# Altium integrated library quantum-research-group.IntLib: 5 symbols
Pins are listed as number, name and electrical type; pins without a type are passive.

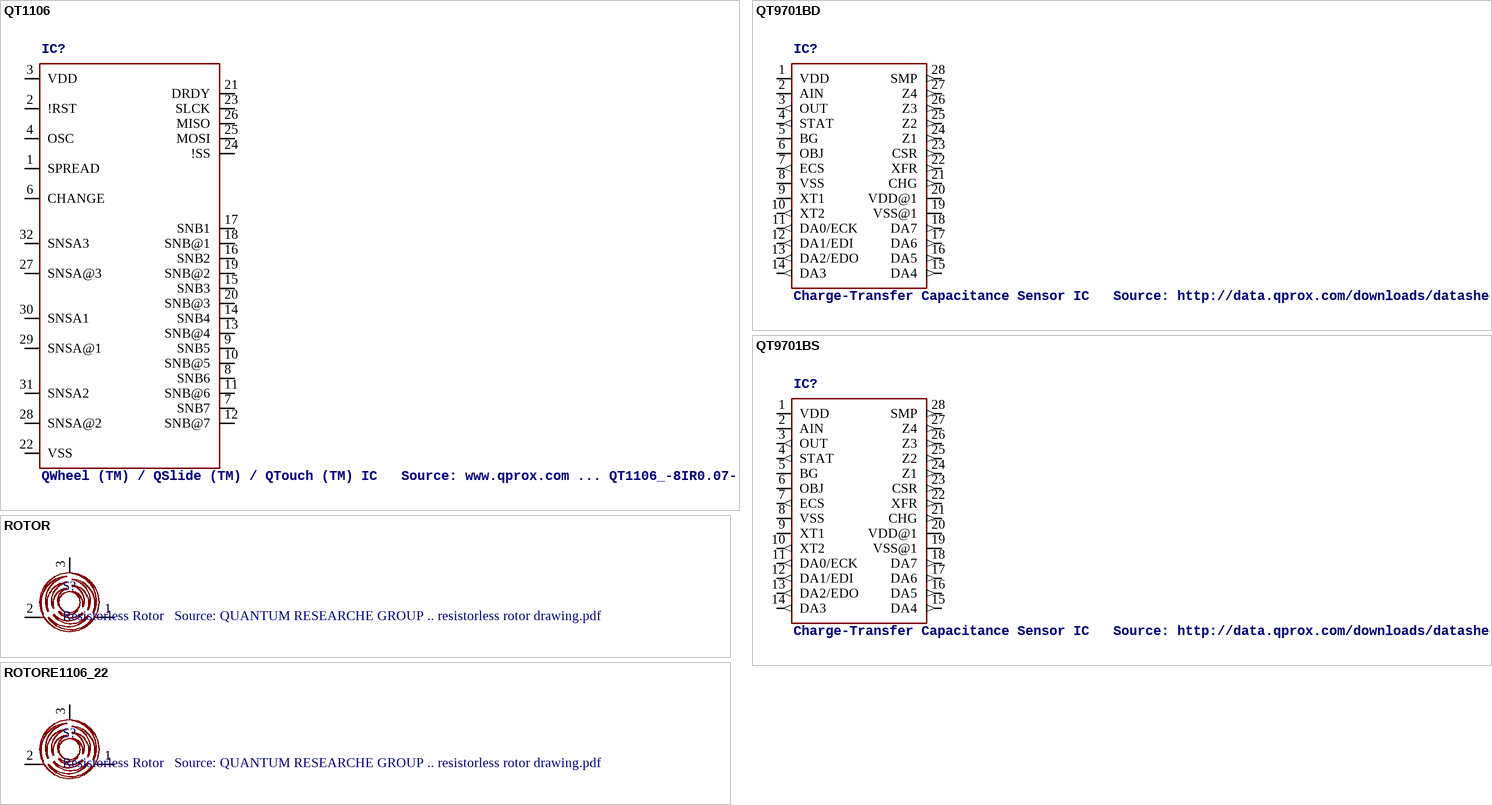
[diagram p0: symbols QT1106 to ROTORE1106_22]

## QT1106
designator IC?, comment QWheel (TM) / QSlide (TM) / QTouch (TM) IC   Source: www.qprox.com ... QT1106_-8IR0.07-16262.pdf
MPN: QT1106-ISG; OC_FARNELL: 1275992; OC_NEWARK: 24M6663
footprint QFN32
pins: 1 SPREAD (oc), 2 !RST, 3 VDD (power), 4 OSC, 5 NC, 6 CHANGE, 7 SNB7, 8 SNB6, 9 SNB5, 10 SNB@5, 11 SNB@6, 12 SNB@7, 13 SNB@4, 14 SNB4, 15 SNB3, 16 SNB2, 17 SNB1, 18 SNB@1, 19 SNB@2, 20 SNB@3, 21 DRDY (oc), 22 VSS (power), 23 SLCK, 24 !SS, 25 MOSI, 26 MISO (oc), 27 SNSA@3, 28 SNSA@2, 29 SNSA@1, 30 SNSA1, 31 SNSA2, 32 SNSA3

## QT9701BD
designator IC?, comment Charge-Transfer Capacitance Sensor IC   Source: http://data.qprox.com/downloads/datasheets/qt9701b.pdf
OC_FARNELL: unknown; OC_NEWARK: unknown
footprint DIL28-3
pins: 1 VDD, 2 AIN, 3 OUT (out), 4 STAT (out), 5 BG, 6 OBJ, 7 ECS (out), 8 VSS, 9 XT1, 10 XT2 (out), 11 DA0/ECK (out), 12 DA1/EDI (out), 13 DA2/EDO (out), 14 DA3 (out), 15 DA4 (out), 16 DA5 (out), 17 DA6 (out), 18 DA7 (out), 19 VSS@1, 20 VDD@1, 21 CHG (out), 22 XFR (out), 23 CSR (out), 24 Z1 (out), 25 Z2 (out), 26 Z3 (out), 27 Z4 (out), 28 SMP (out)

## QT9701BS
designator IC?, comment Charge-Transfer Capacitance Sensor IC   Source: http://data.qprox.com/downloads/datasheets/qt9701b.pdf
OC_FARNELL: unknown; OC_NEWARK: unknown
footprint SO28W
pins: 1 VDD, 2 AIN, 3 OUT (out), 4 STAT (out), 5 BG, 6 OBJ, 7 ECS (out), 8 VSS, 9 XT1, 10 XT2 (out), 11 DA0/ECK (out), 12 DA1/EDI (out), 13 DA2/EDO (out), 14 DA3 (out), 15 DA4 (out), 16 DA5 (out), 17 DA6 (out), 18 DA7 (out), 19 VSS@1, 20 VDD@1, 21 CHG (out), 22 XFR (out), 23 CSR (out), 24 Z1 (out), 25 Z2 (out), 26 Z3 (out), 27 Z4 (out), 28 SMP (out)

## ROTOR
designator S?, comment Resistorless Rotor   Source: QUANTUM RESEARCHE GROUP .. resistorless rotor drawing.pdf
OC_FARNELL: unknown; OC_NEWARK: unknown
footprint ROTOR-QUANTUM-20MM
pins: 1, 2, 3

## ROTORE1106_22
designator S?, comment Resistorless Rotor   Source: QUANTUM RESEARCHE GROUP .. resistorless rotor drawing.pdf
OC_FARNELL: unknown; OC_NEWARK: unknown
footprint ROTOR_E1106_40MM
pins: 1, 2, 3